# EAGLE library part MAX498 (library max498)
Quad, SPDT, RGB Switch with 250MHz Video Buffer Amplifiers
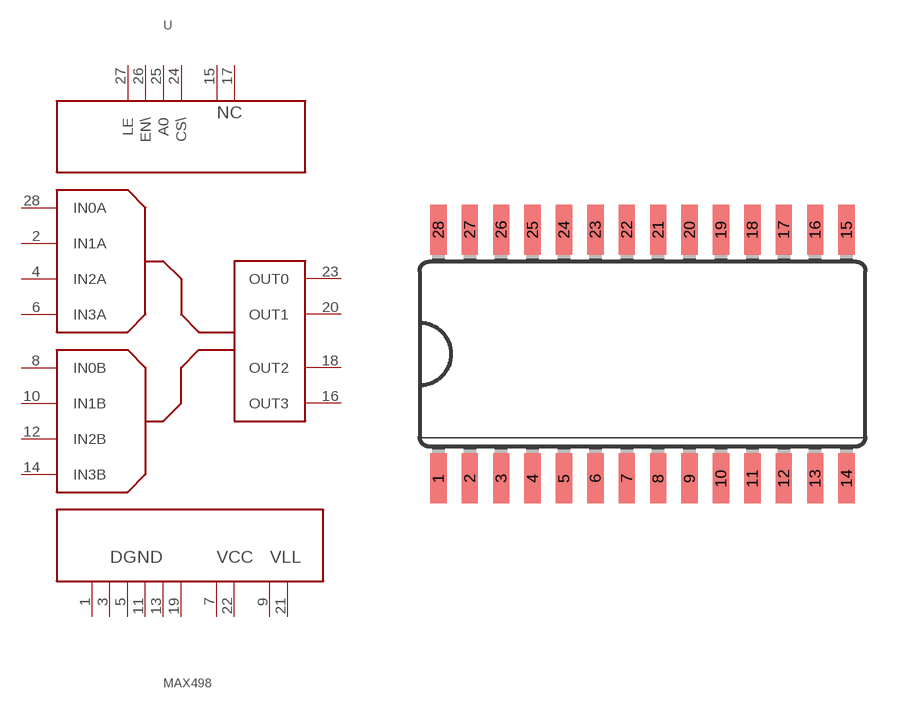
[diagram p0: symbol with the pads of MAX498; footprint MAX498]

Designator prefix -

## MAX498  [MAX498]
1  DGND  pwr
2  IN1A  in
3  DGND  pwr
4  IN2A  in
5  DGND  pwr
6  IN3A  in
7  VCC  pwr
8  IN0B  in
9  VLL  pwr
10  IN1B  in
11  DGND  pwr
12  IN2B  in
13  DGND  pwr
14  IN3B  in
15  N.C.1  nc
16  OUT3  out
17  N.C.2  nc
18  OUT2  out
19  DGND  pwr
20  OUT1  out
21  VLL  pwr
22  VCC  pwr
23  OUT0  out
24  CS\
25  A0
26  EN\
27  LE
28  IN0A  in

## Footprint MAX498 (pad centres in mm)
smd 0.66 x 2.032: 1 -8.255,-5.029; 2 -6.985,-5.029; 3 -5.715,-5.029; 4 -4.445,-5.029; 5 -3.175,-5.029; 6 -1.905,-5.029; 7 -0.635,-5.029; 8 0.635,-5.029; 9 1.905,-5.029; 10 3.175,-5.029; 11 4.445,-5.029; 12 5.715,-5.029; 13 6.985,-5.029; 14 8.255,-5.029; 15 8.255,5.029; 16 6.985,5.029; 17 5.715,5.029; 18 4.445,5.029; 19 3.175,5.029; 20 1.905,5.029; 21 0.635,5.029; 22 -0.635,5.029; 23 -1.905,5.029; 24 -3.175,5.029; 25 -4.445,5.029; 26 -5.715,5.029; 27 -6.985,5.029; 28 -8.255,5.029